# EAGLE library part CD74HC4067 (library Eagle CMR)
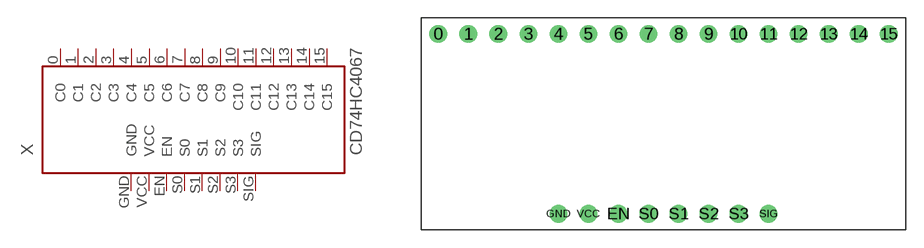
[diagram p0: symbol with the pads of CD74HC4067; footprint CD74HC4067]

Designator prefix X

## CD74HC4067  [CD74HC4067]
0  C0
1  C1
2  C2
3  C3
4  C4
5  C5
6  C6
7  C7
8  C8
9  C9
10  C10
11  C11
12  C12
13  C13
14  C14
15  C15
EN  EN
GND  GND
S0  S0
S1  S1
S2  S2
S3  S3
SIG  SIG
VCC  VCC

## Footprint CD74HC4067 (pad centres in mm)
drill 1: 0 -19.05,7.62; 1 -16.51,7.62; 2 -13.97,7.62; 3 -11.43,7.62; 4 -8.89,7.62; 5 -6.35,7.62; 6 -3.81,7.62; 7 -1.27,7.62; 8 1.27,7.62; 9 3.81,7.62; 10 6.35,7.62; 11 8.89,7.62; 12 11.43,7.62; 13 13.97,7.62; 14 16.51,7.62; 15 19.05,7.62; EN -3.81,-7.62; GND -8.89,-7.62; S0 -1.27,-7.62; S1 1.27,-7.62; S2 3.81,-7.62; S3 6.35,-7.62; SIG 8.89,-7.62; VCC -6.35,-7.62